# EAGLE library part TC58CVG2S0HRAIJ-ACTUAL (library MITCH Shield)
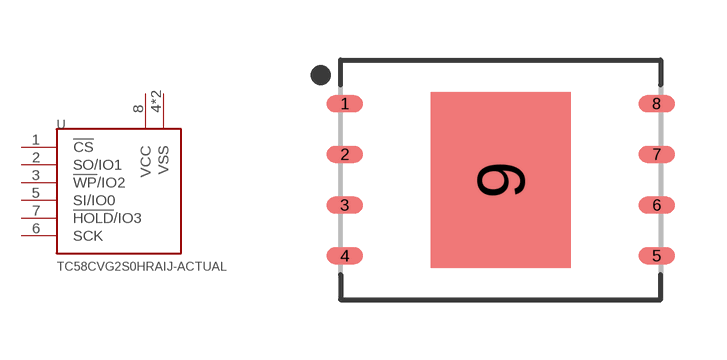
[diagram p6: symbol with the pads of COMPUTER2_SON127P800X600X80-9T350X440N; footprint COMPUTER2_SON127P800X600X80-9T350X440N]

Designator prefix -

## TC58CVG2S0HRAIJ-ACTUAL  [COMPUTER2_SON127P800X600X80-9T350X440N]
1  !CS!
2  SO/IO1
3  !WP!/IO2
4  VSS
5  SI/IO0
6  SCK
7  !HOLD!/IO3
8  VCC
9  VSS

## Footprint COMPUTER2_SON127P800X600X80-9T350X440N (pad centres in mm)
8-SON (DFN), 1.27 mm pitch, 6.00 X 8.00 X 0.80 mm body, 4.40 X 3.50 mm thermal pad 8-pin SON (DFN) package with 1.27 mm pitch with body size 6.00 X 8.00 X 0.80 mm and thermal pad size 4.40 X 3.50 mm
smd 0.911 x 0.42: 1 -3.901,1.905; 2 -3.901,0.635; 3 -3.901,-0.635; 4 -3.901,-1.905; 5 3.901,-1.905; 6 3.901,-0.635; 7 3.901,0.635; 8 3.901,1.905
smd 3.5 x 4.4: 9 0,0